# EAGLE library part LM393 (library lm393)
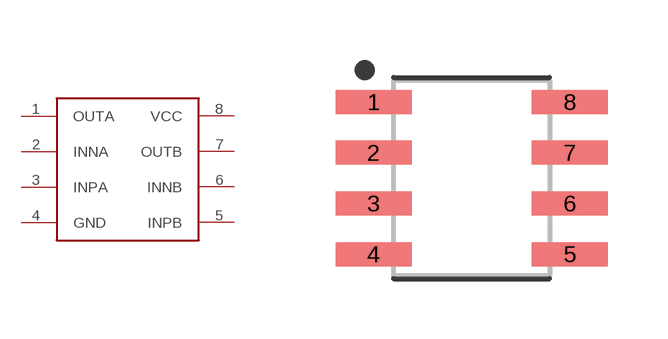
[diagram p0: symbol with the pads of SOIC127P600X144-8; footprint SOIC127P600X144-8]

Designator prefix -

## LM393  [SOIC127P600X144-8]
1  OUTA
2  INNA
3  INPA
4  GND
5  INPB
6  INNB
7  OUTB
8  VCC

## Footprint SOIC127P600X144-8 (pad centres in mm)
8-SOIC, 1.27 mm pitch, 6.00 mm span, 4.90 X 3.90 X 1.44 mm body 8-pin SOIC package with 1.27 mm pitch, 6.00 mm span with body size 4.90 X 3.90 X 1.44 mm
smd 1.901 x 0.599: 1 -2.455,1.905; 2 -2.455,0.635; 3 -2.455,-0.635; 4 -2.455,-1.905; 5 2.455,-1.905; 6 2.455,-0.635; 7 2.455,0.635; 8 2.455,1.905